# Altium integrated library NX2301P.IntLib: 1 symbol
Pins are listed as number, name and electrical type; pins without a type are passive.

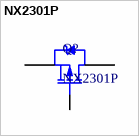
[diagram p0: symbol NX2301P]

## NX2301P
designator Q?
Supplier Part Number 1: 1894738; Supplier Part Number 2: 568-10314-1-ND; Supplier Part Number 3: 771-NX2301P215; Supplier 1: Farnell; Supplier 2: Digi-Key; Supplier 3: Mouser
footprint SOT95P245X110-3N (SOT23, 3-Leads, Body 2,90x2,45mm, Pitch 0,95mm, IPC Medium Density)
pins: 1 G, 2 S, 3 D